# EAGLE library part LD09S24A4GV00LF (library D-Sub Connectors)
CONN D-SUB RCPT 9POS VERT SOLDER Manufacturer's datasheet <https://www.amphenol-icc.com/media/wysiwyg/files/drawing/10130912.pdf>
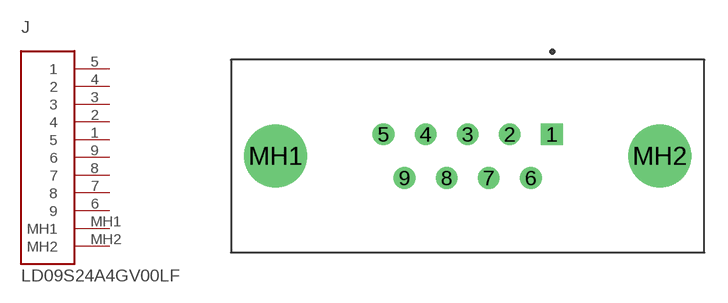
[diagram p18: symbol with the pads of LD09S24A4GV00LF; footprint LD09S24A4GV00LF]

Designator prefix J

## LD09S24A4GV00LF (CREATED_BY: PCBLayout.com; DIGIKEY_PART_NUMBER: 609-5190-ND; MANUFACTURER: Amphenol ICC (FCI); MPN: LD09S24A4GV00LF)  [LD09S24A4GV00LF]
1  5  pas
2  4  pas
3  3  pas
4  2  pas
5  1  pas
6  9  pas
7  8  pas
8  7  pas
9  6  pas
MH1  MH1  pas
MH2  MH2  pas

## Footprint LD09S24A4GV00LF (pad centres in mm)
drill 0.9 square: 1 5.48,1.42
drill 0.9: 2 2.74,1.42; 3 0,1.42; 4 -2.74,1.42; 5 -5.48,1.42; 6 4.11,-1.42; 7 1.37,-1.42; 8 -1.37,-1.42; 9 -4.11,-1.42
drill 3.1: MH1 -12.495,0; MH2 12.495,0